# Altium footprint library AD9851.PcbLib: 16 footprints
Each footprint in its own frame and in the unit in brackets; x right, y up, seen from the top. Pads: shape width x height; smd on the part's side, far side on the other; paste and mask are expansions set on the pad; w line width, h text height; cw(c..) or ccw(c..) is an arc to the next point about the centre after c.
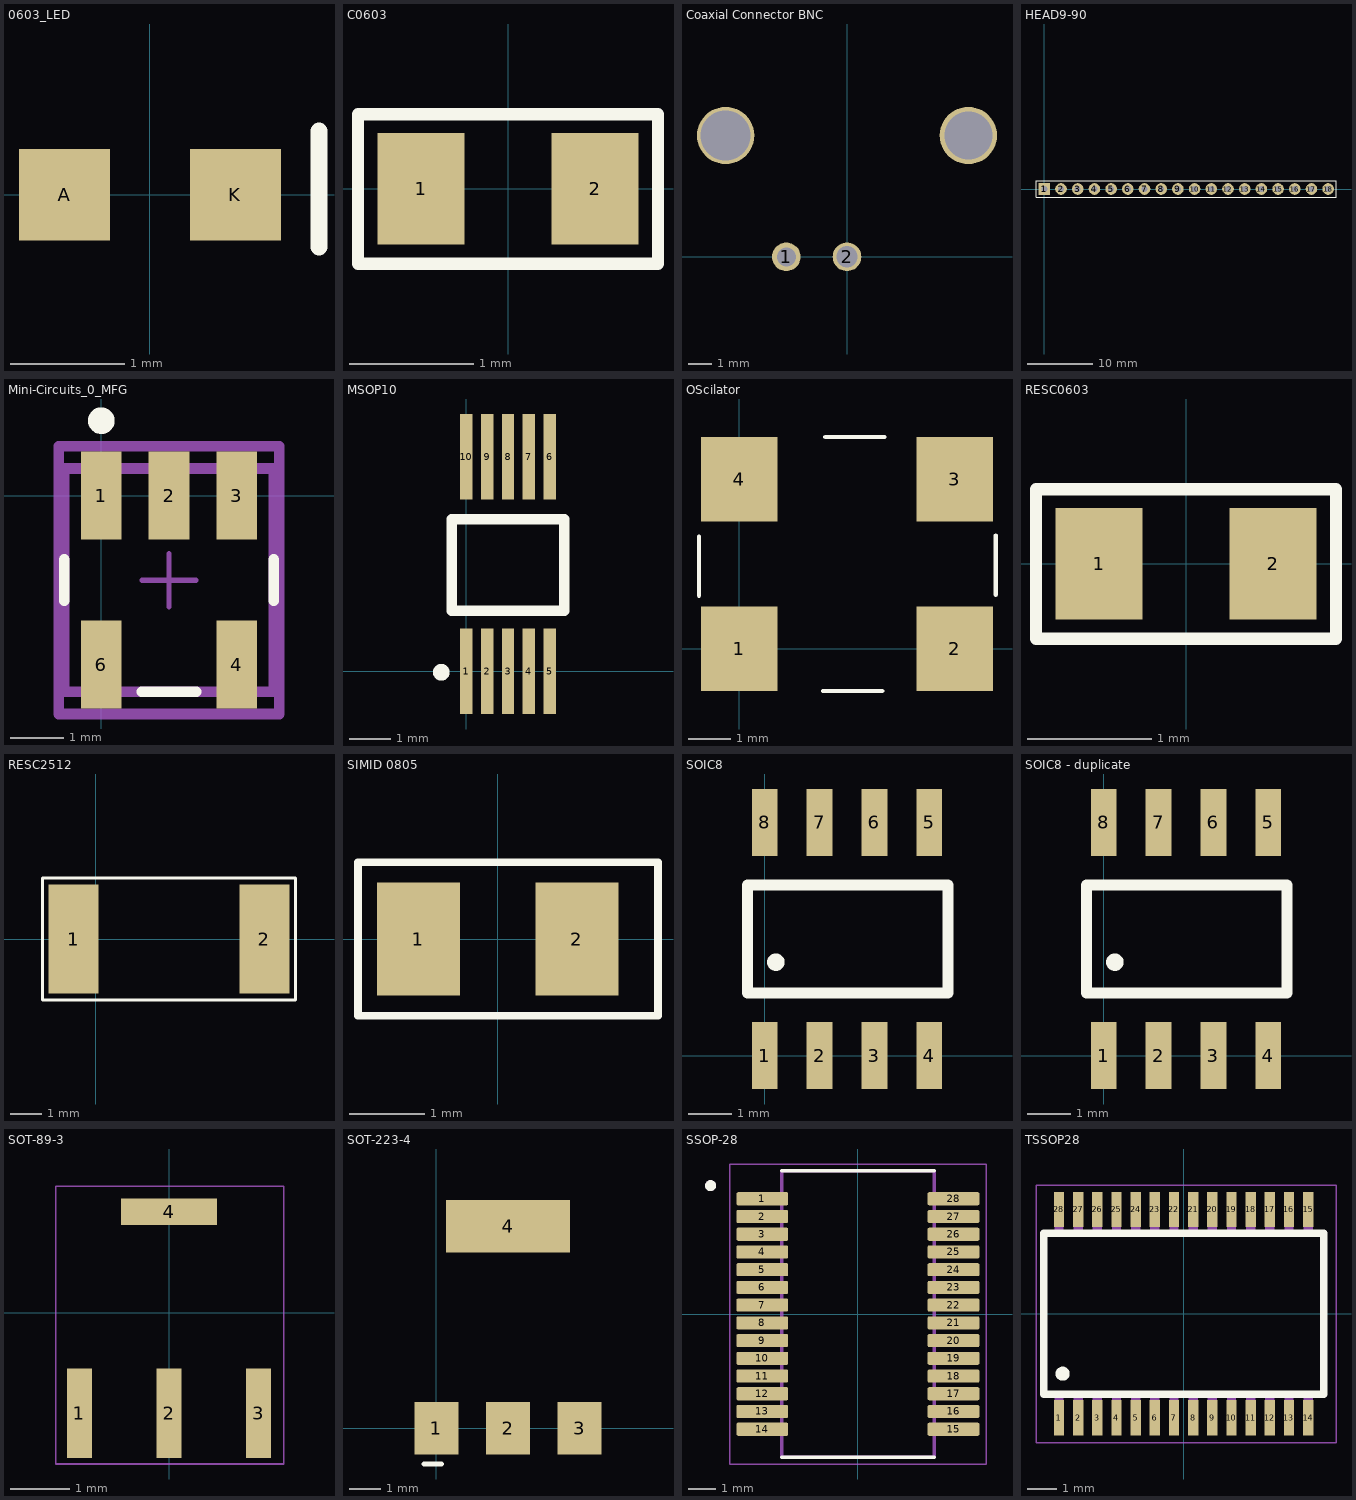
[diagram p0: the footprints below, top view; thin cyan lines are the x and y axes]

## 0603_LED [mm]
pads (2):
  rect 0.8x0.8 smd: A(-0.75,0) K(0.75,0)
Top Overlay:
  lines w0.152: 1.485,-0.457 1.485,0.559
3D body: height 0.6, standoff 0, extent -0.798,-0.419 0.822,0.381

## C0603 [mm]
pads (2):
  rect 0.7x0.9 smd: 1(-0.7,0) 2(0.7,0)
Top Overlay:
  lines w0.1: -1.208,-0.602 1.205,-0.602 1.205,0.598 -1.208,0.598 -1.208,-0.602
3D body: height 0.8, standoff 0, extent -0.75,-0.425 0.85,0.375

## Coaxial Connector BNC [mm]
pads (4):
  round 1.2 hole 0.8: 1(-2.54,0)
  round 1.2 hole 0.89: 2(0,0)
  round 2.4 hole 2.1: ""(-5.08,5.08)
  round 2.4 hole 2.01: ""(5.08,5.08)
3D body: height 16.65, standoff -3.45, extent -7.35,-2.032 7.35,33.468

## HEAD9-90 [mil] "HEAD15-NOSS"
pads (18):
  rect 70x70 hole 36: 1(0,0)
  round 70 hole 36: 2(100,0) 3(200,0) 4(300,0) 5(400,0) 6(500,0) 7(600,0) 8(700,0) 9(800,0) 10(900,0) 11(1000,0) 12(1100,0) 13(1200,0) 14(1300,0) 15(1400,0) 16(1500,0) 17(1600,0) 18(1700,0)
Top Overlay:
  lines w5: -50,-50 -50,50 1747.05,50 1747.05,-50 -50,-50
Bottom Overlay:
  lines w5: -50,-50 1747.05,-50 1747.05,50 -50,50 -50,-50
3D body: height 242.06, standoff -129.94, extent 844.72,-50.2 1734.72,346.8
3D body: height 242.06, standoff -129.94, extent -45.28,-50.2 844.72,346.8

## Mini-Circuits_0_MFG [mil]
pads (5):
  rect 30x65 smd paste+0 mask+0: 1(0,0) 2(50,0) 3(100,0) 4(100,-125) 6(0,-125)
Top Overlay:
  circle w9.84: c0,55.31 r4.92
  lines w7.87: -27.5,-77.74 -27.5,-47.26 ; 29.76,-145 70.24,-145 ; 127.5,-77.74 127.5,-47.26
Mechanical 10:
  lines w7.87: -31.44,-161.44 131.44,-161.44 131.44,36.44 -31.44,36.44 -31.44,-161.44
Mechanical 12:
  lines w7.87: -27.5,-145 127.5,-145 127.5,20 -27.5,20 -27.5,-145
Mechanical 15:
  lines w3.94: 30.32,-62.5 69.69,-62.5 ; 50,-82.19 50,-42.81
  lines w7.87: -31.44,-161.44 131.44,-161.44 131.44,36.44 -31.44,36.44 -31.44,-161.44
3D body: height 10, standoff 0, extent -31.44,-161.44 131.44,36.44

## MSOP10 [mm]
pads (10):
  rect 0.3x2.05 smd: 1(0,0) 2(0.5,0) 3(1,0) 4(1.5,0) 5(2,0) 6(2,5.15) 7(1.5,5.15) 8(1,5.15) 9(0.5,5.15) 10(0,5.15)
Top Overlay:
  lines w0.203: -0.507,0.012 ccw(c-0.6,-0.025) -0.5,-0.025
  lines w0.254: -0.35,1.45 -0.35,3.65 2.35,3.65 2.35,1.45 -0.35,1.45
3D body: height 1.05, standoff 0, extent -0.5,-0.064 2.5,4.964

## OScilator [mm]
pads (4):
  rect 1.8x2 smd mask+0.102: 1(0,0)
  rect 1.8x2 smd: 2(5.08,0) 3(5.08,4) 4(0,4)
Top Overlay:
  lines w0.1: -0.95,1.252 -0.95,2.65 ; 1.975,-1 3.373,-1 ; 2.027,5 3.425,5 ; 6.05,1.277 6.05,2.675
3D body: height 1.52, standoff 0, extent -0.9,-0.485 6.1,4.535

## RESC0603 [mm]
pads (2):
  rect 0.7x0.9 smd: 1(-0.7,0) 2(0.7,0)
Top Overlay:
  lines w0.1: -1.208,-0.602 1.205,-0.602 1.205,0.598 -1.208,0.598 -1.208,-0.602
3D body: height 0.56, standoff 0, extent -0.85,-0.4 0.85,0.4

## RESC2512 [mm]
pads (2):
  rect 1.6x3.5 smd: 1(-0.7,0) 2(5.4,0)
Top Overlay:
  lines w0.1: -1.7,-1.95 6.4,-1.95 6.4,1.95 -1.7,1.95 -1.7,-1.95
3D body: height 0.58, standoff -0.03, extent -0.9,-1.625 5.45,1.635

## SIMID 0805 [mm]
pads (2):
  rect 1.1x1.5 smd: 1(-1.05,0) 2(1.05,0)
Top Overlay:
  lines w0.1: -1.85,-1.016 -1.85,1.016 2.125,1.016 2.125,-1.016 -1.85,-1.016
3D body: height 1.51, standoff -0.01, extent -1.144,-0.962 1.145,0.763

## SOIC8 [mm]
pads (8):
  rect 0.6x1.55 smd: 1(0,0) 2(1.27,0) 3(2.54,0) 4(3.81,0) 5(3.81,5.4) 6(2.54,5.4) 7(1.27,5.4) 8(0,5.4)
Top Overlay:
  lines w0.203: 0.35,2.2 ccw(c0.257,2.163) 0.357,2.163
  lines w0.254: -0.4,1.45 4.25,1.45 4.25,3.95 -0.4,3.95 -0.4,1.45
3D body: height 1.75, standoff 0, extent -0.575,-0.365 4.425,5.865

## SOIC8 - duplicate [mm]
pads (8):
  rect 0.6x1.55 smd: 1(0,0) 2(1.27,0) 3(2.54,0) 4(3.81,0) 5(3.81,5.4) 6(2.54,5.4) 7(1.27,5.4) 8(0,5.4)
Top Overlay:
  lines w0.203: 0.35,2.2 ccw(c0.257,2.163) 0.357,2.163
  lines w0.254: -0.4,1.45 4.25,1.45 4.25,3.95 -0.4,3.95 -0.4,1.45
3D body: height 1.75, standoff 0, extent -0.575,-0.365 4.425,5.865

## SOT-89-3 [mm]
pads (4):
  rect 0.42x1.5 smd: 1(-1.5,-1.687) 2(0,-1.687) 3(1.5,-1.687)
  rect 1.6x0.45 smd: 4(0,1.687)
Mechanical 16:
  lines w0.025: -1.9,-2.538 -1.9,2.113 1.925,2.113 1.925,-2.538 -1.9,-2.538
3D body: height 1.54, standoff 0, extent -2.25,-2.312 2.25,1.937

## SOT-223-4 [mm]
pads (4):
  rect 1.4x1.7 smd: 1(0,0) 2(2.3,0) 3(4.6,0)
  rect 4x1.7 smd: 4(2.3,6.5)
Top Overlay:
  lines w0.152: -0.4,-1.15 0.159,-1.15
3D body: height 1.64, standoff -0.01, extent -0.95,-0.375 5.55,6.625

## SSOP-28 [mm]
pads (28):
  rrect25% 1.9x0.48 smd: 1(-3.505,4.225) 2(-3.505,3.575) 3(-3.505,2.925) 4(-3.505,2.275) 5(-3.505,1.625) 6(-3.505,0.975) 7(-3.505,0.325) 8(-3.505,-0.325) 9(-3.505,-0.975) 10(-3.505,-1.625) 11(-3.505,-2.275) 12(-3.505,-2.925) 13(-3.505,-3.575) 14(-3.505,-4.225) 15(3.505,-4.225) 16(3.505,-3.575) 17(3.505,-2.925) 18(3.505,-2.275) 19(3.505,-1.625) 20(3.505,-0.975) 21(3.505,-0.325) 22(3.505,0.325) 23(3.505,0.975) 24(3.505,1.625) 25(3.505,2.275) 26(3.505,2.925) 27(3.505,3.575) 28(3.505,4.225)
Top Overlay:
  circle w0.2: c-5.405,4.705 r0.1
  lines w0.127: -2.8,-5.25 2.8,-5.25 ; -2.8,5.25 2.8,5.25
Mechanical 13:
  circle w0.2: c-5.405,4.705 r0.1
  lines w0.127: -2.8,-5.25 -2.8,5.25 2.8,5.25 2.8,-5.25 -2.8,-5.25
Mechanical 15:
  lines w0.05: -4.705,-5.5 -4.705,5.5 4.705,5.5 4.705,-5.5 -4.705,-5.5

## TSSOP28 [mm]
pads (28):
  rect 0.35x1.2 smd: 1(-4.225,-3.535) 2(-3.575,-3.535) 3(-2.925,-3.535) 4(-2.275,-3.535) 5(-1.625,-3.535) 6(-0.975,-3.535) 7(-0.325,-3.535) 8(0.325,-3.535) 9(0.975,-3.535) 10(1.625,-3.535) 11(2.275,-3.535) 12(2.925,-3.535) 13(3.575,-3.535) 14(4.225,-3.535) 15(4.225,3.535) 16(3.575,3.535) 17(2.925,3.535) 18(2.275,3.535) 19(1.625,3.535) 20(0.975,3.535) 21(0.325,3.535) 22(-0.325,3.535) 23(-0.975,3.535) 24(-1.625,3.535) 25(-2.275,3.535) 26(-2.925,3.535) 27(-3.575,3.535) 28(-4.225,3.535)
Top Overlay:
  circle w0.254: c-4.1,-2.035 r0.112
  lines w0.254: -4.75,-2.735 4.75,-2.735 4.75,2.735 -4.75,2.735 -4.75,-2.735
Mechanical 13:
  region: -4.075,2.835 -4.375,2.835 -4.375,3.885 -4.075,3.885
  region: -3.425,2.835 -3.725,2.835 -3.725,3.885 -3.425,3.885
  region: -2.775,2.835 -3.075,2.835 -3.075,3.885 -2.775,3.885
  region: -2.125,2.835 -2.425,2.835 -2.425,3.885 -2.125,3.885
  region: -1.475,2.835 -1.775,2.835 -1.775,3.885 -1.475,3.885
  region: -0.825,2.835 -1.125,2.835 -1.125,3.885 -0.825,3.885
  region: -0.175,2.835 -0.475,2.835 -0.475,3.885 -0.175,3.885
  region: 0.475,2.835 0.175,2.835 0.175,3.885 0.475,3.885
  region: 1.125,2.835 0.825,2.835 0.825,3.885 1.125,3.885
  region: 1.775,2.835 1.475,2.835 1.475,3.885 1.775,3.885
  region: 2.425,2.835 2.125,2.835 2.125,3.885 2.425,3.885
  region: 3.075,2.835 2.775,2.835 2.775,3.885 3.075,3.885
  region: 3.725,2.835 3.425,2.835 3.425,3.885 3.725,3.885
  region: 4.375,2.835 4.075,2.835 4.075,3.885 4.375,3.885
  region: 4.375,-3.885 4.075,-3.885 4.075,-2.835 4.375,-2.835
  region: 3.725,-3.885 3.425,-3.885 3.425,-2.835 3.725,-2.835
  region: 3.075,-3.885 2.775,-3.885 2.775,-2.835 3.075,-2.835
  region: 2.425,-3.885 2.125,-3.885 2.125,-2.835 2.425,-2.835
  region: 1.775,-3.885 1.475,-3.885 1.475,-2.835 1.775,-2.835
  region: 1.125,-3.885 0.825,-3.885 0.825,-2.835 1.125,-2.835
  region: 0.475,-3.885 0.175,-3.885 0.175,-2.835 0.475,-2.835
  region: -0.175,-3.885 -0.475,-3.885 -0.475,-2.835 -0.175,-2.835
  region: -0.825,-3.885 -1.125,-3.885 -1.125,-2.835 -0.825,-2.835
  region: -1.475,-3.885 -1.775,-3.885 -1.775,-2.835 -1.475,-2.835
  region: -2.125,-3.885 -2.425,-3.885 -2.425,-2.835 -2.125,-2.835
  region: -2.775,-3.885 -3.075,-3.885 -3.075,-2.835 -2.775,-2.835
  region: -3.425,-3.885 -3.725,-3.885 -3.725,-2.835 -3.425,-2.835
  region: -4.075,-3.885 -4.375,-3.885 -4.375,-2.835 -4.075,-2.835
Mechanical 15:
  lines w0.05: -5.005,-4.385 -5.005,4.365 5.17,4.365 5.17,-4.385 -5.005,-4.385
3D body: height 2.15, standoff 0, extent -5.17,-3.863 5.16,3.893